# Altium footprint library Fancy.PcbLib: 140 footprints (part 4 of 9)
Each footprint in its own frame and in the unit in brackets; x right, y up, seen from the top. Pads: shape width x height; smd on the part's side, far side on the other; paste and mask are expansions set on the pad; w line width, h text height; cw(c..) or ccw(c..) is an arc to the next point about the centre after c.
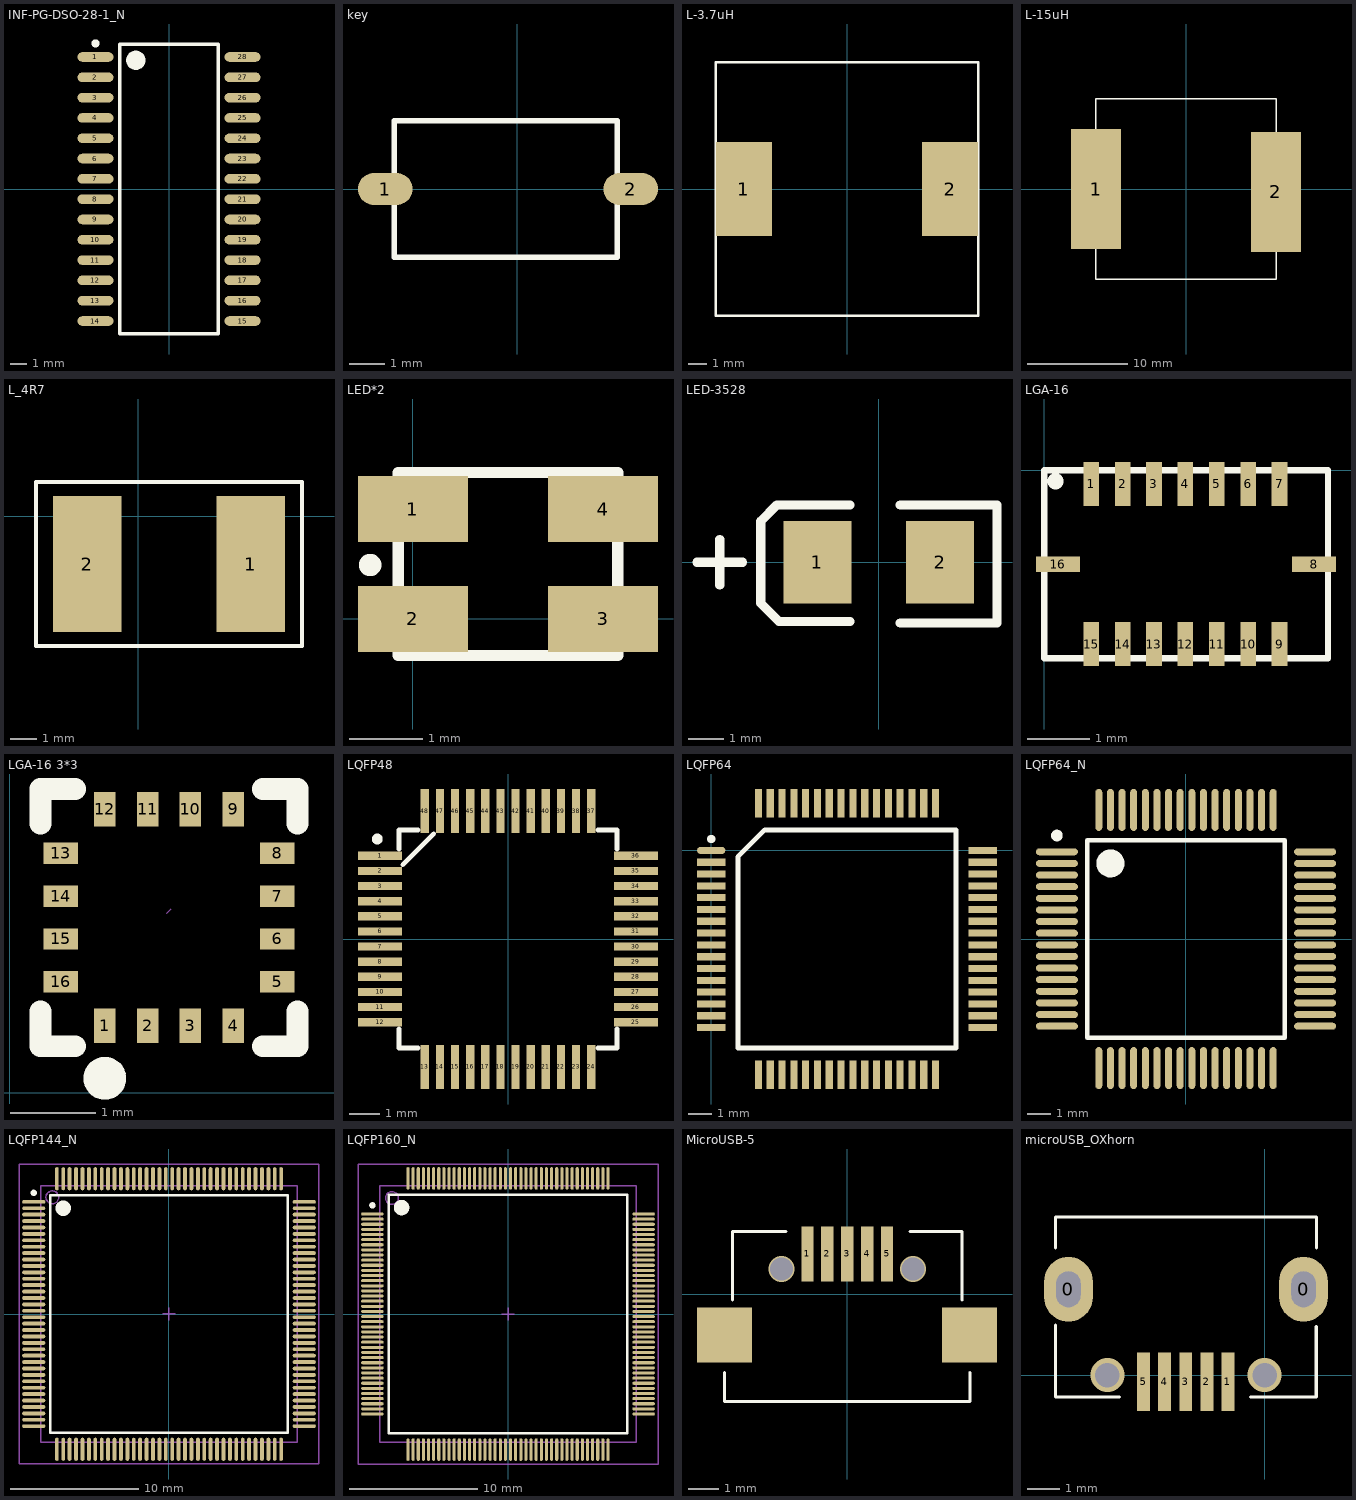
[diagram p3: the footprints below, top view; thin cyan lines are the x and y axes]

## INF-PG-DSO-28-1_N [mm] "SOP, 28-Leads, Body 17.9x7.5mm, Pitch 1.27mm, IPC Medium Density"
height 2.65
pads (28):
  oval 2.25x0.6 smd: 1(-4.6,8.255) 2(-4.6,6.985) 3(-4.6,5.715) 4(-4.6,4.445) 5(-4.6,3.175) 6(-4.6,1.905) 7(-4.6,0.635) 8(-4.6,-0.635) 9(-4.6,-1.905) 10(-4.6,-3.175) 11(-4.6,-4.445) 12(-4.6,-5.715) 13(-4.6,-6.985) 14(-4.6,-8.255) 15(4.6,-8.255) 16(4.6,-6.985) 17(4.6,-5.715) 18(4.6,-4.445) 19(4.6,-3.175) 20(4.6,-1.905) 21(4.6,-0.635) 22(4.6,0.635) 23(4.6,1.905) 24(4.6,3.175) 25(4.6,4.445) 26(4.6,5.715) 27(4.6,6.985) 28(4.6,8.255)
Top Overlay:
  circle w0.25: c-4.6,9.105 r0.125
  circle w0.6: c-2.075,8.05 r0.3
  lines w0.2: -3.075,-9.05 -3.075,9.05 3.075,9.05 3.075,-9.05 -3.075,-9.05

## key [mil]
pads (2):
  oval 60x35 smd: 1(-145,0) 2(125,0)
Top Overlay:
  lines w6: -135,-75 -135,-70 -135,75 110,75 110,-70 110,-75 100,-75 -125,-75 -135,-75

## L-3.7uH [mm] "MLC1565"
pads (2):
  rect 3x5 smd: 1(-5.5,0) 2(5.5,0)
Top Overlay:
  lines w0.127: -7,-6.75 -7,6.75 0,6.75 7,6.75 7,-6.75 0,-6.75 -7,-6.75

## L-15uH [mm]
pads (2):
  rect 5x12 smd: 1(-9.017,0) 2(8.966,-0.279)
Top Overlay:
  lines w0.127: -9.068,9.017 -0.025,9.042 8.992,9.042 9.017,0 9.017,-9.017 0,-9.017 -9.042,-9.042 -9.042,-0.025 -9.068,9.017

## L_4R7 [mil]
pads (2):
  rect 100x200 smd: 1(165,-70) 2(-75,-70)
Top Overlay:
  lines w6: -75,-190 165,-190 ; -150,-190 -150,50 -75,50 165,50 240,50 240,-190 -150,-190

## LED*2 [mm]
pads (4):
  rect 1.5x0.9 smd paste+0 mask+0.102: 1(0,1.5) 2(0,0) 3(2.6,0) 4(2.6,1.5)
Top Overlay:
  circle w0.254: c-0.584,0.737 r0.025
  lines w0.152: -0.2,-0.5 2.8,-0.5 2.8,2 -0.2,2 -0.2,-0.5

## LED-3528 [mm]
pads (2):
  rect 1.9x2.3 smd: 1(-1.715,0) 2(1.715,0)
Top Overlay:
  lines w0.254: -5.08,0 -3.81,0 ; -4.445,-0.635 -4.445,0.635 ; -0.8,-1.651 -2.794,-1.651 -3.3,-1.145 -3.3,1.145 -2.845,1.6 -0.8,1.6 ; 0.6,-1.7 3.302,-1.7 3.302,1.6 0.6,1.6

## LGA-16 [mm]
pads (16):
  rect 0.25x0.7 smd: 1(0.75,-0.22) 2(1.25,-0.22) 3(1.75,-0.22) 4(2.25,-0.22) 5(2.75,-0.22) 6(3.25,-0.22) 7(3.75,-0.22) 9(3.75,-2.77) 10(3.25,-2.77) 11(2.75,-2.77) 12(2.25,-2.77) 13(1.75,-2.77) 14(1.25,-2.77) 15(0.75,-2.77)
  rect 0.7x0.25 smd: 8(4.3,-1.5) 16(0.22,-1.5)
Top Overlay:
  lines w0.1: 0,-2.997 4.521,-2.997 4.521,0 0,0 0,-2.997
  lines w0.254: 0.18,-0.18 0.18,-0.17

## LGA-16 3*3 [mm]
pads (16):
  rect 0.25x0.4 smd: 1(1.108,0.78) 2(1.608,0.78) 3(2.108,0.78) 4(2.608,0.78) 9(2.608,3.306) 10(2.108,3.306) 11(1.608,3.306) 12(1.108,3.306)
  rect 0.4x0.25 smd: 5(3.121,1.293) 6(3.121,1.793) 7(3.121,2.293) 8(3.121,2.793) 13(0.595,2.793) 14(0.595,2.293) 15(0.595,1.793) 16(0.595,1.293)
Top Overlay:
  lines w0.25: 1.108,0.293 ccw(c1.109,0.168) 1.111,0.293
  lines w0.254: 0.358,0.949 0.358,0.543 0.764,0.543 ; 0.358,3.137 0.358,3.543 0.764,3.543 ; 2.952,0.543 3.358,0.543 3.358,0.949 ; 2.952,3.543 3.358,3.543 3.358,3.137
Mechanical 15:
  lines w0.003: 1.833,2.094 1.883,2.145

## LQFP48 [mm]
pads (48):
  rect 1.461x0.27 smd: 1(-4.225,2.75) 2(-4.225,2.25) 3(-4.225,1.75) 4(-4.225,1.25) 5(-4.225,0.75) 6(-4.225,0.25) 7(-4.225,-0.25) 8(-4.225,-0.75) 9(-4.225,-1.25) 10(-4.225,-1.75) 11(-4.225,-2.25) 12(-4.225,-2.75) 25(4.225,-2.75) 26(4.225,-2.25) 27(4.225,-1.75) 28(4.225,-1.25) 29(4.225,-0.75) 30(4.225,-0.25) 31(4.225,0.25) 32(4.225,0.75) 33(4.225,1.25) 34(4.225,1.75) 35(4.225,2.25) 36(4.225,2.75)
  rect 0.27x1.461 smd: 13(-2.75,-4.225) 14(-2.25,-4.225) 15(-1.75,-4.225) 16(-1.25,-4.225) 17(-0.75,-4.225) 18(-0.25,-4.225) 19(0.25,-4.225) 20(0.75,-4.225) 21(1.25,-4.225) 22(1.75,-4.225) 23(2.25,-4.225) 24(2.75,-4.225) 37(2.75,4.225) 38(2.25,4.225) 39(1.75,4.225) 40(1.25,4.225) 41(0.75,4.225) 42(0.25,4.225) 43(-0.25,4.225) 44(-0.75,4.225) 45(-1.25,4.225) 46(-1.75,4.225) 47(-2.25,4.225) 48(-2.75,4.225)
Top Overlay:
  circle w0.254: c-4.318,3.302 r0.051
  lines w0.152: -3.6,-2.961 -3.6,-3.6 -2.961,-3.6 ; -3.6,2.961 -3.6,3.6 -2.961,3.6 ; -3.472,2.458 -2.458,3.472 ; 2.961,-3.6 3.6,-3.6 3.6,-2.961 ; 2.961,3.6 3.6,3.6 3.6,2.961

## LQFP64 [mm]
pads (64):
  oval 1.2x0.3 smd: 1(0,0)
  rect 1.2x0.3 smd: 2(0,-0.5) 3(0,-1) 4(0,-1.5) 5(0,-2) 6(0,-2.5) 7(0,-3) 8(0,-3.5) 9(0,-4) 10(0,-4.5) 11(0,-5) 12(0,-5.5) 13(0,-6) 14(0,-6.5) 15(0,-7) 16(0,-7.5) 33(11.5,-7.5) 34(11.5,-7) 35(11.5,-6.5) 36(11.5,-6) 37(11.5,-5.5) 38(11.5,-5) 39(11.5,-4.5) 40(11.5,-4) 41(11.5,-3.5) 42(11.5,-3) 43(11.5,-2.5) 44(11.5,-2) 45(11.5,-1.5) 46(11.5,-1) 47(11.5,-0.5) 48(11.5,0)
  rect 0.3x1.2 smd: 17(2,-9.5) 18(2.5,-9.5) 19(3,-9.5) 20(3.5,-9.5) 21(4,-9.5) 22(4.5,-9.5) 23(5,-9.5) 24(5.5,-9.5) 25(6,-9.5) 26(6.5,-9.5) 27(7,-9.5) 28(7.5,-9.5) 29(8,-9.5) 30(8.5,-9.5) 31(9,-9.5) 32(9.5,-9.5) 49(9.5,2) 50(9,2) 51(8.5,2) 52(8,2) 53(7.5,2) 54(7,2) 55(6.5,2) 56(6,2) 57(5.5,2) 58(5,2) 59(4.5,2) 60(4,2) 61(3.5,2) 62(3,2) 63(2.5,2) 64(2,2)
Top Overlay:
  circle w0.254: c0,0.483 r0.051
  lines w0.2: 1.135,-8.365 1.135,-0.27 2.27,0.865 10.365,0.865 10.365,-8.365 1.135,-8.365

## LQFP64_N [mm] "Thin QFP, 64-Leads, Body 10x10mm, Pitch 0.5mm, IPC Medium Density"
height 1.6
pads (64):
  oval 1.8x0.3 smd: 1(-5.55,3.75) 2(-5.55,3.25) 3(-5.55,2.75) 4(-5.55,2.25) 5(-5.55,1.75) 6(-5.55,1.25) 7(-5.55,0.75) 8(-5.55,0.25) 9(-5.55,-0.25) 10(-5.55,-0.75) 11(-5.55,-1.25) 12(-5.55,-1.75) 13(-5.55,-2.25) 14(-5.55,-2.75) 15(-5.55,-3.25) 16(-5.55,-3.75) 33(5.55,-3.75) 34(5.55,-3.25) 35(5.55,-2.75) 36(5.55,-2.25) 37(5.55,-1.75) 38(5.55,-1.25) 39(5.55,-0.75) 40(5.55,-0.25) 41(5.55,0.25) 42(5.55,0.75) 43(5.55,1.25) 44(5.55,1.75) 45(5.55,2.25) 46(5.55,2.75) 47(5.55,3.25) 48(5.55,3.75)
  oval 0.3x1.8 smd: 17(-3.75,-5.55) 18(-3.25,-5.55) 19(-2.75,-5.55) 20(-2.25,-5.55) 21(-1.75,-5.55) 22(-1.25,-5.55) 23(-0.75,-5.55) 24(-0.25,-5.55) 25(0.25,-5.55) 26(0.75,-5.55) 27(1.25,-5.55) 28(1.75,-5.55) 29(2.25,-5.55) 30(2.75,-5.55) 31(3.25,-5.55) 32(3.75,-5.55) 49(3.75,5.55) 50(3.25,5.55) 51(2.75,5.55) 52(2.25,5.55) 53(1.75,5.55) 54(1.25,5.55) 55(0.75,5.55) 56(0.25,5.55) 57(-0.25,5.55) 58(-0.75,5.55) 59(-1.25,5.55) 60(-1.75,5.55) 61(-2.25,5.55) 62(-2.75,5.55) 63(-3.25,5.55) 64(-3.75,5.55)
Top Overlay:
  circle w0.25: c-5.55,4.45 r0.125
  circle w0.6: c-3.25,3.25 r0.3
  lines w0.2: -4.25,-4.25 -4.25,4.25 4.25,4.25 4.25,-4.25 -4.25,-4.25

## LQFP144_N [mm] "Thin QFP, 144-Leads, Body 20x20mm, Pitch 0.5mm, IPC Medium Density"
height 1.6
pads (144):
  oval 1.8x0.3 smd: 1(-10.55,8.75) 2(-10.55,8.25) 3(-10.55,7.75) 4(-10.55,7.25) 5(-10.55,6.75) 6(-10.55,6.25) 7(-10.55,5.75) 8(-10.55,5.25) 9(-10.55,4.75) 10(-10.55,4.25) 11(-10.55,3.75) 12(-10.55,3.25) 13(-10.55,2.75) 14(-10.55,2.25) 15(-10.55,1.75) 16(-10.55,1.25) 17(-10.55,0.75) 18(-10.55,0.25) 19(-10.55,-0.25) 20(-10.55,-0.75) 21(-10.55,-1.25) 22(-10.55,-1.75) 23(-10.55,-2.25) 24(-10.55,-2.75) 25(-10.55,-3.25) 26(-10.55,-3.75) 27(-10.55,-4.25) 28(-10.55,-4.75) 29(-10.55,-5.25) 30(-10.55,-5.75) 31(-10.55,-6.25) 32(-10.55,-6.75) 33(-10.55,-7.25) 34(-10.55,-7.75) 35(-10.55,-8.25) 36(-10.55,-8.75) 73(10.55,-8.75) 74(10.55,-8.25) 75(10.55,-7.75) 76(10.55,-7.25) 77(10.55,-6.75) 78(10.55,-6.25) 79(10.55,-5.75) 80(10.55,-5.25) 81(10.55,-4.75) 82(10.55,-4.25) 83(10.55,-3.75) 84(10.55,-3.25) 85(10.55,-2.75) 86(10.55,-2.25) 87(10.55,-1.75) 88(10.55,-1.25) 89(10.55,-0.75) 90(10.55,-0.25) 91(10.55,0.25) 92(10.55,0.75) 93(10.55,1.25) 94(10.55,1.75) 95(10.55,2.25) 96(10.55,2.75) 97(10.55,3.25) 98(10.55,3.75) 99(10.55,4.25) 100(10.55,4.75) 101(10.55,5.25) 102(10.55,5.75) 103(10.55,6.25) 104(10.55,6.75) 105(10.55,7.25) 106(10.55,7.75) 107(10.55,8.25) 108(10.55,8.75)
  oval 0.3x1.8 smd: 37(-8.75,-10.55) 38(-8.25,-10.55) 39(-7.75,-10.55) 40(-7.25,-10.55) 41(-6.75,-10.55) 42(-6.25,-10.55) 43(-5.75,-10.55) 44(-5.25,-10.55) 45(-4.75,-10.55) 46(-4.25,-10.55) 47(-3.75,-10.55) 48(-3.25,-10.55) 49(-2.75,-10.55) 50(-2.25,-10.55) 51(-1.75,-10.55) 52(-1.25,-10.55) 53(-0.75,-10.55) 54(-0.25,-10.55) 55(0.25,-10.55) 56(0.75,-10.55) 57(1.25,-10.55) 58(1.75,-10.55) 59(2.25,-10.55) 60(2.75,-10.55) 61(3.25,-10.55) 62(3.75,-10.55) 63(4.25,-10.55) 64(4.75,-10.55) 65(5.25,-10.55) 66(5.75,-10.55) 67(6.25,-10.55) 68(6.75,-10.55) 69(7.25,-10.55) 70(7.75,-10.55) 71(8.25,-10.55) 72(8.75,-10.55) 109(8.75,10.55) 110(8.25,10.55) 111(7.75,10.55) 112(7.25,10.55) 113(6.75,10.55) 114(6.25,10.55) 115(5.75,10.55) 116(5.25,10.55) 117(4.75,10.55) 118(4.25,10.55) 119(3.75,10.55) 120(3.25,10.55) 121(2.75,10.55) 122(2.25,10.55) 123(1.75,10.55) 124(1.25,10.55) 125(0.75,10.55) 126(0.25,10.55) 127(-0.25,10.55) 128(-0.75,10.55) 129(-1.25,10.55) 130(-1.75,10.55) 131(-2.25,10.55) 132(-2.75,10.55) 133(-3.25,10.55) 134(-3.75,10.55) 135(-4.25,10.55) 136(-4.75,10.55) 137(-5.25,10.55) 138(-5.75,10.55) 139(-6.25,10.55) 140(-6.75,10.55) 141(-7.25,10.55) 142(-7.75,10.55) 143(-8.25,10.55) 144(-8.75,10.55)
Top Overlay:
  circle w0.25: c-10.55,9.45 r0.125
  circle w0.6: c-8.25,8.25 r0.3
  lines w0.2: -9.25,-9.25 -9.25,9.25 9.25,9.25 9.25,-9.25 -9.25,-9.25
Mechanical 13:
  circle w0.1: c-9.1,9.1 r0.5
  lines w0.1: -10,-10 -10,10 10,10 10,-10 -10,-10
Mechanical 15:
  lines w0.1: -0.5,0 0.5,0 ; 0,-0.5 0,0.5 ; -11.7,-11.7 -11.7,11.7 11.7,11.7 11.7,-11.7 -11.7,-11.7
3D body: height 1.6, standoff 0, extent -10,-10 10,10

## LQFP160_N [mm] "Thin QFP, 160-Leads, Body 20x20mm, Pitch 0.4mm, IPC Medium Density"
height 1.6
pads (160):
  oval 1.75x0.24 smd: 1(-10.575,7.8) 2(-10.575,7.4) 3(-10.575,7) 4(-10.575,6.6) 5(-10.575,6.2) 6(-10.575,5.8) 7(-10.575,5.4) 8(-10.575,5) 9(-10.575,4.6) 10(-10.575,4.2) 11(-10.575,3.8) 12(-10.575,3.4) 13(-10.575,3) 14(-10.575,2.6) 15(-10.575,2.2) 16(-10.575,1.8) 17(-10.575,1.4) 18(-10.575,1) 19(-10.575,0.6) 20(-10.575,0.2) 21(-10.575,-0.2) 22(-10.575,-0.6) 23(-10.575,-1) 24(-10.575,-1.4) 25(-10.575,-1.8) 26(-10.575,-2.2) 27(-10.575,-2.6) 28(-10.575,-3) 29(-10.575,-3.4) 30(-10.575,-3.8) 31(-10.575,-4.2) 32(-10.575,-4.6) 33(-10.575,-5) 34(-10.575,-5.4) 35(-10.575,-5.8) 36(-10.575,-6.2) 37(-10.575,-6.6) 38(-10.575,-7) 39(-10.575,-7.4) 40(-10.575,-7.8) 81(10.575,-7.8) 82(10.575,-7.4) 83(10.575,-7) 84(10.575,-6.6) 85(10.575,-6.2) 86(10.575,-5.8) 87(10.575,-5.4) 88(10.575,-5) 89(10.575,-4.6) 90(10.575,-4.2) 91(10.575,-3.8) 92(10.575,-3.4) 93(10.575,-3) 94(10.575,-2.6) 95(10.575,-2.2) 96(10.575,-1.8) 97(10.575,-1.4) 98(10.575,-1) 99(10.575,-0.6) 100(10.575,-0.2) 101(10.575,0.2) 102(10.575,0.6) 103(10.575,1) 104(10.575,1.4) 105(10.575,1.8) 106(10.575,2.2) 107(10.575,2.6) 108(10.575,3) 109(10.575,3.4) 110(10.575,3.8) 111(10.575,4.2) 112(10.575,4.6) 113(10.575,5) 114(10.575,5.4) 115(10.575,5.8) 116(10.575,6.2) 117(10.575,6.6) 118(10.575,7) 119(10.575,7.4) 120(10.575,7.8)
  oval 0.24x1.75 smd: 41(-7.8,-10.575) 42(-7.4,-10.575) 43(-7,-10.575) 44(-6.6,-10.575) 45(-6.2,-10.575) 46(-5.8,-10.575) 47(-5.4,-10.575) 48(-5,-10.575) 49(-4.6,-10.575) 50(-4.2,-10.575) 51(-3.8,-10.575) 52(-3.4,-10.575) 53(-3,-10.575) 54(-2.6,-10.575) 55(-2.2,-10.575) 56(-1.8,-10.575) 57(-1.4,-10.575) 58(-1,-10.575) 59(-0.6,-10.575) 60(-0.2,-10.575) 61(0.2,-10.575) 62(0.6,-10.575) 63(1,-10.575) 64(1.4,-10.575) 65(1.8,-10.575) 66(2.2,-10.575) 67(2.6,-10.575) 68(3,-10.575) 69(3.4,-10.575) 70(3.8,-10.575) 71(4.2,-10.575) 72(4.6,-10.575) 73(5,-10.575) 74(5.4,-10.575) 75(5.8,-10.575) 76(6.2,-10.575) 77(6.6,-10.575) 78(7,-10.575) 79(7.4,-10.575) 80(7.8,-10.575) 121(7.8,10.575) 122(7.4,10.575) 123(7,10.575) 124(6.6,10.575) 125(6.2,10.575) 126(5.8,10.575) 127(5.4,10.575) 128(5,10.575) 129(4.6,10.575) 130(4.2,10.575) 131(3.8,10.575) 132(3.4,10.575) 133(3,10.575) 134(2.6,10.575) 135(2.2,10.575) 136(1.8,10.575) 137(1.4,10.575) 138(1,10.575) 139(0.6,10.575) 140(0.2,10.575) 141(-0.2,10.575) 142(-0.6,10.575) 143(-1,10.575) 144(-1.4,10.575) 145(-1.8,10.575) 146(-2.2,10.575) 147(-2.6,10.575) 148(-3,10.575) 149(-3.4,10.575) 150(-3.8,10.575) 151(-4.2,10.575) 152(-4.6,10.575) 153(-5,10.575) 154(-5.4,10.575) 155(-5.8,10.575) 156(-6.2,10.575) 157(-6.6,10.575) 158(-7,10.575) 159(-7.4,10.575) 160(-7.8,10.575)
Top Overlay:
  circle w0.6: c-8.3,8.3 r0.3
  circle w0.25: c-10.575,8.47 r0.125
  lines w0.2: -9.3,-9.3 9.3,-9.3 9.3,9.3 -9.3,9.3 -9.3,-9.3
Mechanical 13:
  circle w0.1: c-9.05,9.05 r0.5
  lines w0.1: -10,-10 10,-10 10,10 -10,10 -10,-10
Mechanical 15:
  lines w0.1: -0.5,0 0.5,0 ; 0,-0.5 0,0.5 ; -11.7,-11.7 11.7,-11.7 11.7,11.7 -11.7,11.7 -11.7,-11.7
3D body: height 1.6, standoff 0.05, extent -10,-10 10,10

## MicroUSB-5 [mm]
pads (7):
  rect 0.4x1.8 smd: 1(-1.3,1.325) 2(-0.65,1.325) 3(0,1.325) 4(0.65,1.325) 5(1.3,1.325)
  rect 1.8x1.8 smd: ""(-4.004,-1.325) ""(3.988,-1.321)
via 2.152,0.825 diameter 0.85 hole 0.75
via -2.152,0.825 diameter 0.85 hole 0.75
Top Overlay:
  lines w0.1: -4,-2.55 -4,-3.5 ; -3.75,-0.175 -3.75,2.05 -2,2.05 ; 2.05,2.05 3.75,2.05 3.75,-0.175 ; -4,-3.5 -4,-3.5 ; -4,-3.5 -3.75,-3.5 3.75,-3.5 4,-3.5 4,-2.55 ; 3.75,-0.175 3.75,-0.175 ; 4,-2.55 4,-2.55

## microUSB_OXhorn [mm]
pads (7):
  rrect100% 1.5x2 hole 0.75 slot 1.1 at 90 deg: 0(-6.05,2.65) 0(1.2,2.65)
  rect 0.4x1.8 smd: 1(-1.133,-0.2) 2(-1.783,-0.2) 3(-2.433,-0.2) 4(-3.083,-0.2) 5(-3.733,-0.2)
via 0,0 diameter 1.05 hole 0.75
via -4.85,0 diameter 1.05 hole 0.75
Top Overlay:
  lines w0.1: -6.45,1.55 -6.45,-0.675 -4.483,-0.675 ; -6.45,3.925 -6.45,4.875 -6.183,4.875 1.317,4.875 1.6,4.875 1.6,3.925 ; -0.433,-0.675 1.6,-0.675 ; 1.594,-0.669 1.594,1.5